# Altium schematic symbol library Schlib.SchLib: 3 symbols
Pins are listed as number, name and electrical type; pins without a type are passive.

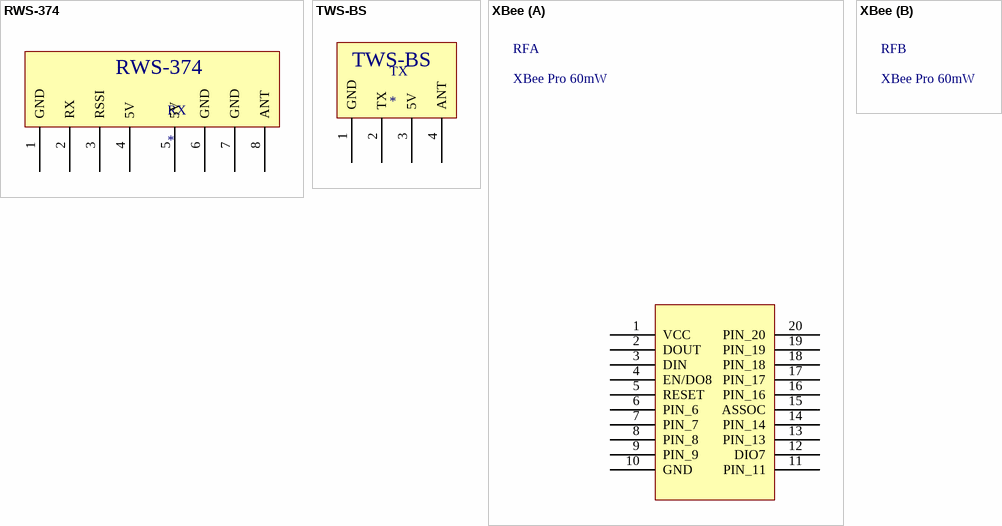
[diagram p0: symbols RWS-374 to XBee]

## RWS-374
designator RX
Receptor RF Soldafria
footprint RWS-374 (Receptor RF (RX))
pins: 1 GND, 2 RX, 3 RSSI, 4 5V, 5 5V, 6 GND, 7 GND, 8 ANT

## TWS-BS
designator TX
Transmissor RF Soldafria
footprint TWS-BS (Receptor RF (TX))
pins: 1 GND, 2 TX, 3 5V, 4 ANT

## XBee
designator RF, comment XBee Pro 60mW
footprint XBEE_PRO
part A pins: 1 VCC, 2 DOUT, 3 DIN, 4 EN/DO8, 5 RESET, 6 PIN_6, 7 PIN_7, 8 PIN_8, 9 PIN_9, 10 GND, 11 PIN_11, 12 DIO7, 13 PIN_13, 14 PIN_14, 15 ASSOC, 16 PIN_16, 17 PIN_17, 18 PIN_18, 19 PIN_19, 20 PIN_20